# EAGLE library part TS2596CM550 (library hestiapiUS)
3A / 150kHz Step-Down DC-DC Converter Manufacturer's datasheet <https://www.taiwansemi.com/products/datasheet/TS2596_G1608.pdf>
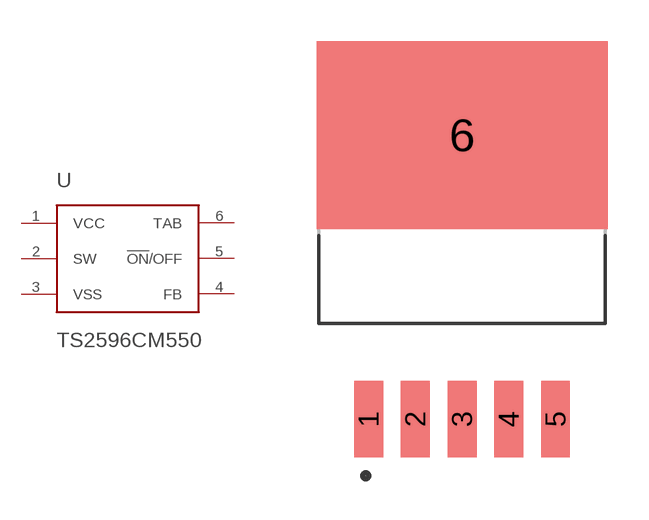
[diagram p1: symbol with the pads of DDPAK/TO-263-5; footprint DDPAK/TO-263-5]

Designator prefix U

## TS2596CM550 (CREATED_BY: obb; DIGIKEY_PART_NUMBER: TS2596CM550RNGTR-ND; MANUFACTURER: TS2596CM550 RNG; MPN: TS2596CM550 RNG; PACKAGE: DDPAK/TO-263-5)  [DDPAK/TO-263-5]
1  VCC  pwr
2  SW  out
3  VSS  pwr
4  FB  in
5  !ON!/OFF  in
6  TAB  pwr

## Footprint DDPAK/TO-263-5 (pad centres in mm)
smd 1.05 x 2.79: 1 -3.4,-6.19; 2 -1.7,-6.19; 3 0,-6.19; 4 1.7,-6.19; 5 3.4,-6.19
smd 10.58 x 6.84: 6 0,4.15